# Altium footprint library 691213510002.PcbLib: 1 footprints
Each footprint in its own frame and in the unit in brackets; x right, y up, seen from the top. Pads: shape width x height; smd on the part's side, far side on the other; paste and mask are expansions set on the pad; w line width, h text height; cw(c..) or ccw(c..) is an arc to the next point about the centre after c.
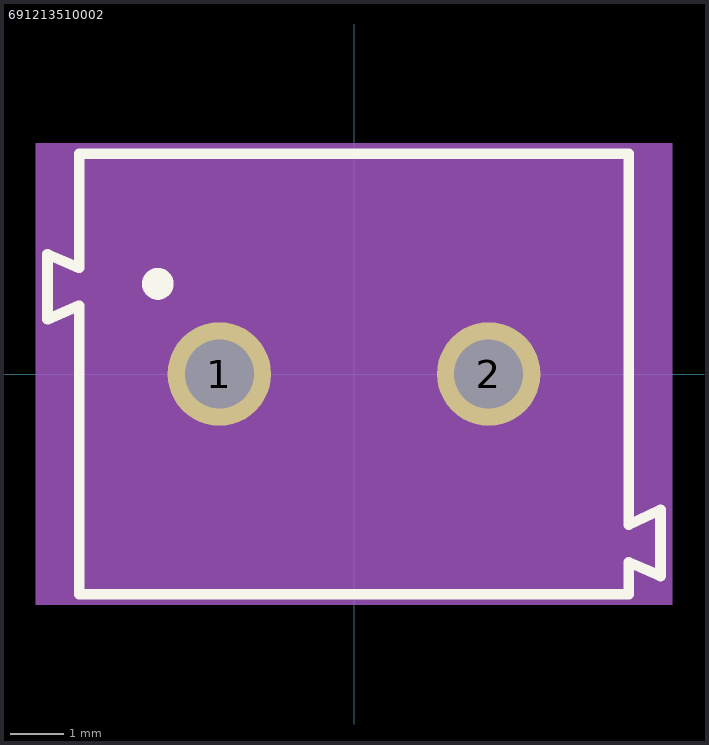
[diagram p0: the footprint, top view; thin cyan lines are the x and y axes]

## 691213510002 [mm]
pads (2):
  round 1.95 hole 1.3: 1(-2.54,0) 2(2.54,0)
Top Overlay:
  circle w0.4: c-3.7,1.7 r0.1
  lines w0.2: -5.78,1.03 -5.78,2.26 -5.18,2 -5.18,4.15 5.18,4.15 5.18,-2.84 5.78,-2.56 5.78,-3.81 5.18,-3.55 5.18,-4.15 -5.18,-4.15 -5.18,1.29 -5.78,1.03
Assembly Top:
  lines w0.1: -5.68,1.13 -5.08,1.39 -5.08,-4.05 5.08,-4.05 5.08,-3.45 5.68,-3.71 5.68,-2.68 5.08,-2.94 5.08,4.05 -5.08,4.05 -5.08,1.9 -5.68,2.16 -5.68,1.13
Courtyard Top:
  region: 6,-4.35 -6,-4.35 -6,4.35 6,4.35
3D body "step_temp.STEP": height 10, standoff -3.5, extent -5.68,-4.064 5.68,4.036